# Altium footprint library Solder_Bridge.PcbLib: 1 footprints
Each footprint in its own frame and in the unit in brackets; x right, y up, seen from the top. Pads: shape width x height; smd on the part's side, far side on the other; paste and mask are expansions set on the pad; w line width, h text height; cw(c..) or ccw(c..) is an arc to the next point about the centre after c.
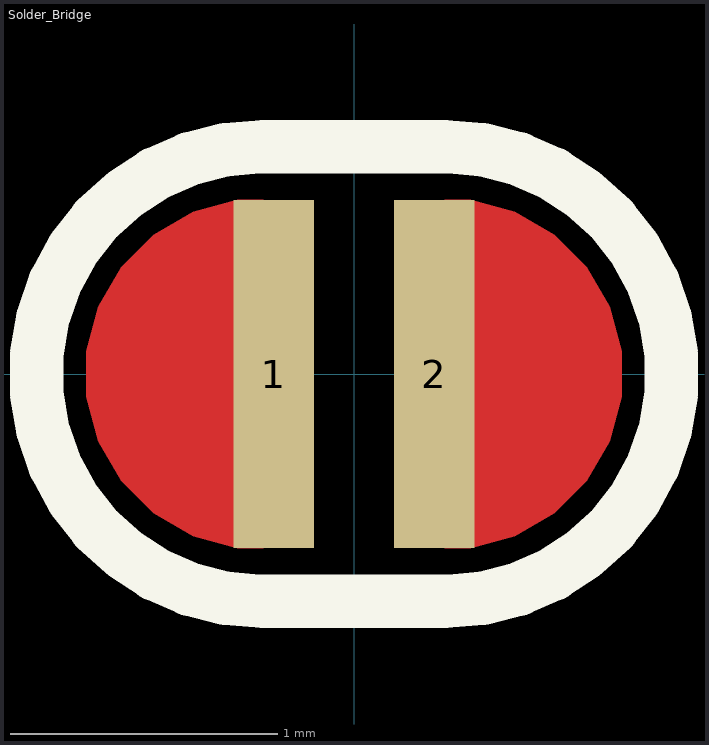
[diagram p0: the footprint, top view; thin cyan lines are the x and y axes]

## Solder_Bridge [mm]
pads (2):
  rect 0.3x1.3 smd paste-2539.97 mask+0: 1(-0.3,0) 2(0.3,0)
Top Layer:
  region: 0.35,0.65 0.34,0.65 0.321,0.643 0.307,0.629 0.3,0.61 0.3,0.6 0.3,-0.6 0.3,-0.61 0.307,-0.629 0.321,-0.643 0.34,-0.65 0.35,-0.65 0.436,-0.65 0.601,-0.606 0.749,-0.52 0.87,-0.399 0.956,-0.251 1,-0.086 1,0.086 0.956,0.251 0.87,0.399 0.749,0.52 0.601,0.606 0.436,0.65
  region: -0.35,-0.65 -0.34,-0.65 -0.321,-0.643 -0.307,-0.629 -0.3,-0.61 -0.3,-0.6 -0.3,0.6 -0.3,0.61 -0.307,0.629 -0.321,0.643 -0.34,0.65 -0.35,0.65 -0.436,0.65 -0.601,0.606 -0.749,0.52 -0.87,0.399 -0.956,0.251 -1,0.086 -1,-0.086 -0.956,-0.251 -0.87,-0.399 -0.749,-0.52 -0.601,-0.606 -0.436,-0.65
Top Overlay:
  lines w0.2: -0.339,-0.85 cw(c-0.339,0) -0.339,0.85 0.339,0.85 cw(c0.339,0) 0.339,-0.85 -0.339,-0.85
Top Solder:
  rectangle: -0.3,-0.65 0.3,0.65
  region: -0.35,-0.65 -0.34,-0.65 -0.321,-0.643 -0.307,-0.629 -0.3,-0.61 -0.3,-0.6 -0.3,0.6 -0.3,0.61 -0.307,0.629 -0.321,0.643 -0.34,0.65 -0.35,0.65 -0.436,0.65 -0.601,0.606 -0.749,0.52 -0.87,0.399 -0.956,0.251 -1,0.086 -1,-0.086 -0.956,-0.251 -0.87,-0.399 -0.749,-0.52 -0.601,-0.606 -0.436,-0.65
  region: 0.35,0.65 0.34,0.65 0.321,0.643 0.307,0.629 0.3,0.61 0.3,0.6 0.3,-0.6 0.3,-0.61 0.307,-0.629 0.321,-0.643 0.34,-0.65 0.35,-0.65 0.436,-0.65 0.601,-0.606 0.749,-0.52 0.87,-0.399 0.956,-0.251 1,-0.086 1,0.086 0.956,0.251 0.87,0.399 0.749,0.52 0.601,0.606 0.436,0.65